# Altium footprint library PROTECT_TVS_ESD_FUSE.PcbLib: 75 footprints (part 3 of 5)
Each footprint in its own frame and in the unit in brackets; x right, y up, seen from the top. Pads: shape width x height; smd on the part's side, far side on the other; paste and mask are expansions set on the pad; w line width, h text height; cw(c..) or ccw(c..) is an arc to the next point about the centre after c.
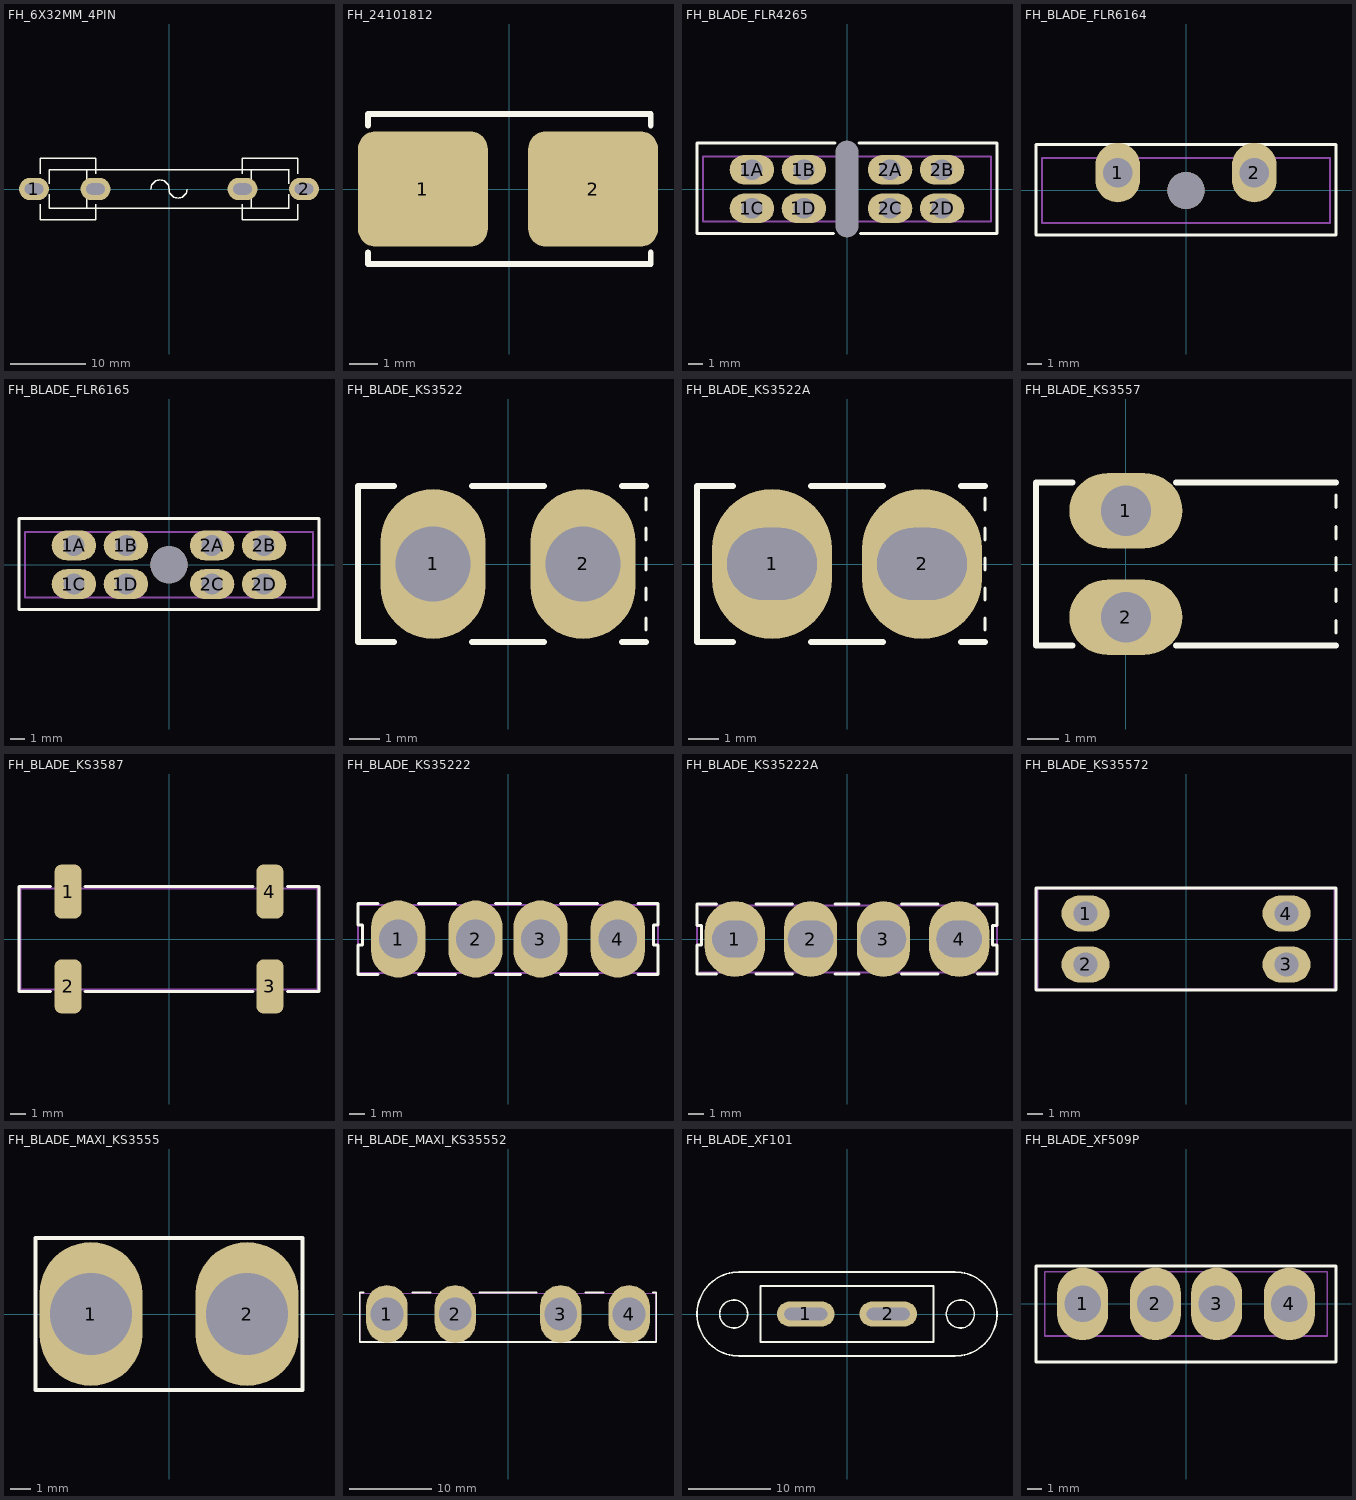
[diagram p2: the footprints below, top view; thin cyan lines are the x and y axes]

## FH_6X32MM_4PIN [mm] "PCB Fuse Holder 6x32mm 2 PIN, pitch: 15.0mm  24x9mm"
height 10
pads (4):
  oval 4x3 hole 1.5 slot 2.5 at 0 deg: 1(-18,0) 2(18,0) ""(-9.8,0) ""(9.8,0)
Top Overlay:
  lines w0.2: -17.2,-2 -17.2,-4.1 -9.8,-4.1 -9.8,-2 ; -17.2,2 -17.2,4.1 -9.8,4.1 -9.8,2 ; -16,-0.7 -16,-2.6 16,-2.6 16,-0.7 ; -16,0.7 -16,2.6 16,2.6 16,0.7 ; -11,-2.6 -11,-1.4 ; -11,1.4 -11,2.6 ; -2.4,0 cw(c-1.2,0) 0,0 ccw(c1.2,0) 2.4,0 ; 9.8,-2 9.8,-4.1 17.2,-4.1 17.2,-2 ; 9.8,2 9.8,4.1 17.2,4.1 17.2,2 ; 11,-2.6 11,-1.4 ; 11,1.4 11,2.6
3D body "fuseHolder_OG_Variant 0751_0056.step": height 11, standoff -4, extent -18.9,-3.7 -8.5,3.72
3D body "fuse_Clips LF-102071 with fuse 6_3x32.STEP": height 11.19, standoff -3.3, extent -17.6,-3.95 17.6,3.95

## FH_24101812 [mm] "FUSE HOLDER for 2410 and 1812 sizes"
height 2.2
pads (2):
  rrect30% 4.5x4 smd paste-2 mask+0.1: 1(-3,0) 2(2.9,0)
Top Overlay:
  lines w0.2: -4.9,-2.2 -4.9,-2.6 4.9,-2.6 4.9,-2.2 ; -4.9,2.2 -4.9,2.6 4.9,2.6 4.9,2.2
Top Paste:
  region: -2.8,1.8 -1.5,1.8 -1.401,1.8 -1.217,1.724 -1.076,1.583 -1,1.399 -1,1.3 -1,0.2 -2.8,0.2
  region: -3.2,1.8 -4.5,1.8 -4.599,1.8 -4.783,1.724 -4.924,1.583 -5,1.399 -5,1.3 -5,0.2 -3.2,0.2
  region: -2.8,-1.8 -1.5,-1.8 -1.401,-1.8 -1.217,-1.724 -1.076,-1.583 -1,-1.399 -1,-1.3 -1,-0.2 -2.8,-0.2
  region: -3.2,-1.8 -4.5,-1.8 -4.599,-1.8 -4.783,-1.724 -4.924,-1.583 -5,-1.399 -5,-1.3 -5,-0.2 -3.2,-0.2
  region: 2.8,1.8 1.5,1.8 1.401,1.8 1.217,1.724 1.076,1.583 1,1.399 1,1.3 1,0.2 2.8,0.2
  region: 3.2,1.8 4.5,1.8 4.599,1.8 4.783,1.724 4.924,1.583 5,1.399 5,1.3 5,0.2 3.2,0.2
  region: 2.8,-1.8 1.5,-1.8 1.401,-1.8 1.217,-1.724 1.076,-1.583 1,-1.399 1,-1.3 1,-0.2 2.8,-0.2
  region: 3.2,-1.8 4.5,-1.8 4.599,-1.8 4.783,-1.724 4.924,-1.583 5,-1.399 5,-1.3 5,-0.2 3.2,-0.2
3D body "2410FuseHolder.STEP": height 4.11, standoff 0, extent -5.1,-2.515 5.104,2.515

## FH_BLADE_FLR4265 [mm] "Car Blade Fuse Holder, Littelfuse FLR 178.4265"
height 6.73
pads (9):
  oval 3x2 hole 1.4: 1A(-6.4,1.3) 1B(-2.9,1.3) 1C(-6.4,-1.3) 1D(-2.9,-1.3) 2A(2.9,1.3) 2B(6.4,1.3) 2C(2.9,-1.3) 2D(6.4,-1.3)
  oval 1.5x6.5 hole 1.5 slot 6.5 at 90 deg unplated: ""(0,0)
Top Overlay:
  lines w0.2: -0.9,-3 -10.1,-3 -10.1,3.1 -0.8,3.1 ; 0.8,3.1 10.1,3.1 10.1,-3 0.9,-3
Mechanical 13:
  lines w0.127: -9.7,-2.2 -9.7,2.2 9.7,2.2 9.7,-2.2 -9.7,-2.2
3D body "FLR 178.4265.0000.step": height 21.15, standoff -4.38, extent -10.05,-3 10.1,3
3D body "atq_car_fuse_red.stp": height 20.2, standoff 1.2, extent -9.55,-2.5 9.55,2.5

## FH_BLADE_FLR6164 [mm] "Car Blade Fuse Holder, Littelfuse FLR 178.6164"
height 6.73
pads (3):
  oval 3x4 hole 2: 1(-4.6,1.2) 2(4.6,1.2)
  round 2.5 hole 2.5 unplated: ""(0,0)
Top Overlay:
  lines w0.2: -10.1,-3 10.1,-3 10.1,3.1 -10.1,3.1 -10.1,-3
Mechanical 13:
  lines w0.127: -9.7,-2.2 9.7,-2.2 9.7,2.2 -9.7,2.2 -9.7,-2.2
3D body "atq_car_fuse_red.stp": height 20.2, standoff 1.2, extent -9.55,-2.5 9.55,2.5
3D body "FLR 178.6164.0000.step": height 17.57, standoff -3.93, extent -10.075,-3 10.075,3

## FH_BLADE_FLR6165 [mm] "Car Blade Fuse Holder, Littelfuse FLR 178.6165"
height 6.73
pads (9):
  oval 3x2 hole 1.4: 1A(-6.4,1.3) 1B(-2.9,1.3) 1C(-6.4,-1.3) 1D(-2.9,-1.3) 2A(2.9,1.3) 2B(6.4,1.3) 2C(2.9,-1.3) 2D(6.4,-1.3)
  round 2.5 hole 2.5 unplated: ""(0,0)
Top Overlay:
  lines w0.2: -10.1,-3 -10.1,3.1 10.1,3.1 10.1,-3 -10.1,-3
Mechanical 13:
  lines w0.127: -9.7,-2.2 -9.7,2.2 9.7,2.2 9.7,-2.2 -9.7,-2.2
3D body "FLR 178.6165.0000 - Holder FLR (ATO) Step model.step": height 17.6, standoff -3.9, extent -10.075,-3 10.075,3
3D body "atq_car_fuse_red.stp": height 20.2, standoff 1.2, extent -9.55,-2.5 9.55,2.5

## FH_BLADE_KS3522 [mm] "Car Blade Fuse Holder, Keystone 3522"
height 6.73
pads (2):
  oval 3.5x5 hole 2.5: 1(-2.5,0) 2(2.5,0)
Top Overlay:
  lines w0.1: 4.6,-2.2 4.6,-1.8 ; 4.6,-1.2 4.6,-0.8 ; 4.6,-0.2 4.6,0.2 ; 4.6,0.8 4.6,1.2 ; 4.6,1.8 4.6,2.2
  lines w0.2: -3.8,-2.6 -5,-2.6 -5,2.6 -3.8,2.6 ; -1.2,-2.6 1.2,-2.6 ; -1.2,2.6 1.2,2.6 ; 3.8,-2.6 4.6,-2.6 ; 3.8,2.6 4.6,2.6
3D body "step_temp.STEP": height 7.1, standoff -4, extent -3.442,-2.399 3.442,0.774

## FH_BLADE_KS3522A [mm] "Car Blade Fuse Holder, a  part similar to Keystone 3522"
height 6.73
pads (2):
  oval 4x5 hole 2.4 slot 3 at 0 deg: 1(-2.5,0) 2(2.5,0)
Top Overlay:
  lines w0.1: 4.6,-2.2 4.6,-1.8 ; 4.6,-1.2 4.6,-0.8 ; 4.6,-0.2 4.6,0.2 ; 4.6,0.8 4.6,1.2 ; 4.6,1.8 4.6,2.2
  lines w0.2: -3.8,-2.6 -5,-2.6 -5,2.6 -3.8,2.6 ; -1.2,-2.6 1.2,-2.6 ; -1.2,2.6 1.2,2.6 ; 3.8,-2.6 4.6,-2.6 ; 3.8,2.6 4.6,2.6
3D body "step_temp.STEP": height 7.1, standoff -4, extent -3.442,-2.399 3.442,0.774

## FH_BLADE_KS3557 [mm] "Car Blade Fuse Holder, Keystone 3557"
height 7.37
pads (2):
  oval 3.6x2.4 hole 1.6: 1(0,1.7) 2(0,-1.7)
Top Overlay:
  lines w0.1: 6.7,-2.2 6.7,-1.8 ; 6.7,-1.2 6.7,-0.8 ; 6.7,-0.2 6.7,0.2 ; 6.7,0.8 6.7,1.2 ; 6.7,1.8 6.7,2.2
  lines w0.2: -1.7,-2.6 -2.865,-2.6 -2.865,2.6 -1.7,2.6 ; 1.6,-2.6 6.7,-2.6 ; 1.6,2.6 6.7,2.6
3D body "keystone-PN3557.STEP": height 6.36, standoff -3.8, extent -1.659,-1.905 3.035,1.905

## FH_BLADE_KS3587 [mm] "Car Blade Fuse Holder, Keystone 3587"
height 8.37
pads (4):
  rrect50% 1.8x3.6 smd: 1(-6.73,3.16) 2(-6.73,-3.16) 3(6.73,-3.16) 4(6.73,3.16)
Top Overlay:
  lines w0.2: -7.9,-3.5 -10,-3.5 -10,3.5 -7.9,3.5 ; -5.6,-3.5 5.6,-3.5 ; -5.6,3.5 5.6,3.5 ; 7.9,-3.5 10,-3.5 10,3.5 7.9,3.5
Mechanical 13:
  lines w0.127: -9.905,-3.365 9.905,-3.365 9.905,3.365 -9.905,3.365 -9.905,-3.365
3D body "atq_car_fuse_red.stp": height 20.2, standoff 1.2, extent -9.55,-2.5 9.55,2.5
3D body "step_temp.STEP": height 8.04, standoff -0.01, extent -9.906,-4.3 9.906,4.336

## FH_BLADE_KS35222 [mm] "Car Blade Fuse Holder, Keystone 3522-2, XFCN XF-507P"
height 6.73
pads (4):
  oval 3.5x5 hole 2.5: 1(-7.1,0) 2(-2.1,0) 3(2.1,0) 4(7.1,0)
Top Overlay:
  lines w0.2: -8.4,-2.3 -9.7,-2.3 -9.7,-0.4 -9.4,-0.4 -9.4,0.9 -9.7,0.9 -9.7,2.3 -8.4,2.3 ; -5.8,-2.3 -3.4,-2.3 ; -5.8,2.3 -3.4,2.3 ; -0.8,-2.3 0.8,-2.3 ; -0.8,2.3 0.8,2.3 ; 3.4,-2.3 5.8,-2.3 ; 3.4,2.3 5.8,2.3 ; 8.4,-2.3 9.7,-2.3 9.7,-0.4 9.4,-0.4 9.4,0.9 9.7,0.9 9.7,2.3 8.4,2.3
Mechanical 13:
  lines w0.127: -9.7,-2.2 9.7,-2.2 9.7,2.2 -9.7,2.2 -9.7,-2.2
3D body "atq_car_fuse_red.stp": height 20.2, standoff 1.2, extent -9.55,-2.5 9.55,2.5
3D body "keystone_3522-2.STEP": height 7.62, standoff -3.48, extent -9.652,-2.222 9.652,2.222

## FH_BLADE_KS35222A [mm] "Car Blade Fuse Holder, a  part similar to Keystone 3522-2"
height 6.73
pads (4):
  oval 4x5 hole 2.4 slot 3 at 0 deg: 1(-7.4,0) 4(7.4,0)
  oval 3.5x5 hole 2.4 slot 3 at 0 deg: 2(-2.4,0) 3(2.4,0)
Top Overlay:
  lines w0.2: -8.6,-2.3 -9.9,-2.3 -9.9,-0.4 -9.6,-0.4 -9.6,0.9 -9.9,0.9 -9.9,2.3 -8.6,2.3 ; -6,-2.3 -3.6,-2.3 ; -6,2.3 -3.6,2.3 ; -0.8,-2.3 0.8,-2.3 ; -0.8,2.3 0.8,2.3 ; 3.6,-2.3 6,-2.3 ; 3.6,2.3 6,2.3 ; 8.6,-2.3 9.9,-2.3 9.9,-0.4 9.6,-0.4 9.6,0.9 9.9,0.9 9.9,2.3 8.6,2.3
Mechanical 13:
  lines w0.127: -9.9,-2.2 -9.9,2.2 ; -9.7,-2.2 9.7,-2.2 ; -9.7,2.2 9.7,2.2 ; 9.9,-2.2 9.9,2.2
3D body "step_temp.STEP": height 7.1, standoff -4, extent 1.458,-2.399 8.342,0.774
3D body "step_temp.STEP": height 7.1, standoff -4, extent -8.342,-2.399 -1.458,0.774
3D body "atq_car_fuse_red.stp": height 20.2, standoff 1.2, extent -9.55,-2.5 9.55,2.5

## FH_BLADE_KS35572 [mm] "Car Blade Fuse Holder, Keystone 3557-2, XF-508P"
height 7.37
pads (4):
  oval 3.2x2.4 hole 1.6: 1(-6.7,1.7) 2(-6.7,-1.7) 3(6.7,-1.7) 4(6.7,1.7)
Top Overlay:
  lines w0.2: -10,-3.4 10,-3.4 10,3.4 -10,3.4 -10,-3.4
Mechanical 13:
  lines w0.127: -9.905,-3.365 9.905,-3.365 9.905,3.365 -9.905,3.365 -9.905,-3.365
3D body "step_temp.STEP": height 7.37, standoff -2.79, extent -9.905,-3.365 9.905,3.365

## FH_BLADE_MAXI_KS3555 [mm] "Car Blade Fuse Holder, Keystone 3555"
height 6.73
pads (2):
  oval 5x7 hole 4: 1(-3.8,0) 2(3.8,0)
Top Overlay:
  lines w0.2: -6.5,-3.7 6.5,-3.7 6.5,3.7 -6.5,3.7 -6.5,-3.7
3D body "User Library-Keystone_3555_fuse_socket.step": height 11, standoff -4, extent -5,-3.094 5,1.4

## FH_BLADE_MAXI_KS35552 [mm] "Car Blade Fuse Holder, Keystone 3555-2, MAXI size"
height 11.6
pads (4):
  oval 5x7 hole 4: 1(-14.7,0) 2(-6.4,0) 3(6.4,0) 4(14.7,0)
Top Overlay:
  lines w0.2: -17.5,2.6 -18,2.6 -18,-3.4 18,-3.4 18,2.6 17.6,2.6 ; -11.6,2.6 -9.4,2.6 ; -3.5,2.6 3.5,2.6 ; 9.4,2.6 11.6,2.6
Mechanical 13:
  lines w0.1: -17.9,-3.3 17.9,-3.3 17.9,2.5 -17.9,2.5 -17.9,-3.3
3D body "step_temp.STEP": height 11.47, standoff -3.21, extent -17.914,-3.321 17.9,2.521

## FH_BLADE_XF101 [mm] "Car Blade Fuse Holder, XFCN XF-101"
height 6.73
pads (2):
  oval 7x3 hole 1.5 slot 5.2 at 0 deg: 1(-5,0) 2(5,0)
Top Overlay:
  circle w0.2: c-13.75,0 r1.7
  circle w0.2: c13.75,0 r1.7
  lines w0.2: -13.1,-5.1 cw(c-13.1,0) -13.1,5.1 13.1,5.1 cw(c13.1,0) 13.1,-5.1 -13.1,-5.1 ; -10.5,-3.4 10.5,-3.4 10.5,3.4 -10.5,3.4 -10.5,-3.4
3D body "atq_car_fuse_red.stp": height 20.2, standoff 1.2, extent -9.55,-2.5 9.55,2.5
3D body "xf-101.step": height 15.05, standoff -7.15, extent -18.1,-5 18.1,5

## FH_BLADE_XF509P [mm] "Car Blade Fuse Holder, XFCN XF-509P"
height 6.73
pads (4):
  oval 3.5x5 hole 2.5: 1(-7.1,0) 2(-2.1,0) 3(2.1,0) 4(7.1,0)
Top Overlay:
  lines w0.2: -10.3,-4 10.3,-4 10.3,2.6 -10.3,2.6 -10.3,-4
Mechanical 13:
  lines w0.127: -9.7,-2.2 9.7,-2.2 9.7,2.2 -9.7,2.2 -9.7,-2.2
3D body "atq_car_fuse_red.stp": height 20.2, standoff 1.2, extent -9.55,-2.5 9.55,2.5
3D body "XF-509P.step": height 7.62, standoff -3.48, extent -10.2,-3.9 10.2,2.5